# EAGLE library part DRV2605YZFR_DRV2605YZFR (library InkTime_v5)
Haptic Driver for ERM/LRA with Built-In Library and Smart Loop Architecture Source: Datasheet <http://www.ti.com/lit/gpn/drv2605>
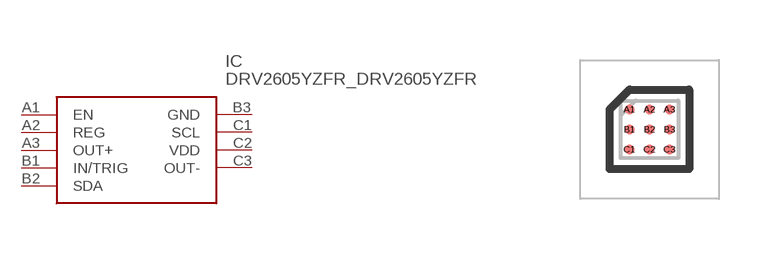
[diagram p6: symbol with the pads of DRV2605YZFR_BGA9C50P3X3_144X144X62; footprint DRV2605YZFR_BGA9C50P3X3_144X144X62]

Designator prefix IC

## DRV2605YZFR_DRV2605YZFR  [DRV2605YZFR_BGA9C50P3X3_144X144X62]
A1  EN
A2  REG
A3  OUT+
B1  IN/TRIG
B2  SDA
B3  GND
C1  SCL
C2  VDD
C3  OUT-

## Footprint DRV2605YZFR_BGA9C50P3X3_144X144X62 (pad centres in mm)
DRV2605YZFR_1
smd 0.25 x 0.25: A1 -0.5,0.5; A2 0,0.5; A3 0.5,0.5; B1 -0.5,0; B2 0,0; B3 0.5,0; C1 -0.5,-0.5; C2 0,-0.5; C3 0.5,-0.5